# EAGLE library part TPS63070 (library calsat)
TPS63070 buck boost switching voltage regulator. CalSat part
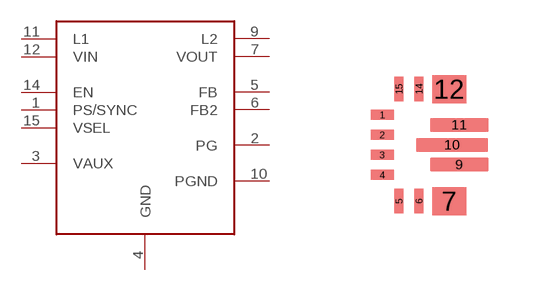
[diagram p3: symbol with the pads of VQFN15; footprint VQFN15]

Designator prefix -

## TPS63070  [VQFN15]
1  PS/SYNC
2  PG
3  VAUX
4  GND
5  FB
6  FB2
7  VOUT
9  L2
10  PGND
11  L1
12  VIN
14  EN
15  VSEL

## Footprint VQFN15 (pad centres in mm)
smd 0.6 x 0.25: 1 -1.15,0.752; 2 -1.15,0.252; 3 -1.15,-0.248; 4 -1.15,-0.748
smd 0.25 x 0.6: 5 -0.727,-1.4; 6 -0.227,-1.4; 14 -0.227,1.4; 15 -0.727,1.4
smd 0.85 x 0.7: 7 0.525,-1.4; 12 0.525,1.4
smd 1.45 x 0.35: 9 0.78,-0.492; 11 0.78,0.503
smd 1.8 x 0.35: 10 0.6,0.003